# Altium footprint library PCB_MachMQ3.PcbLib: 17 footprints (part 2 of 2)
Each footprint in its own frame and in the unit in brackets; x right, y up, seen from the top. Pads: shape width x height; smd on the part's side, far side on the other; paste and mask are expansions set on the pad; w line width, h text height; cw(c..) or ccw(c..) is an arc to the next point about the centre after c.
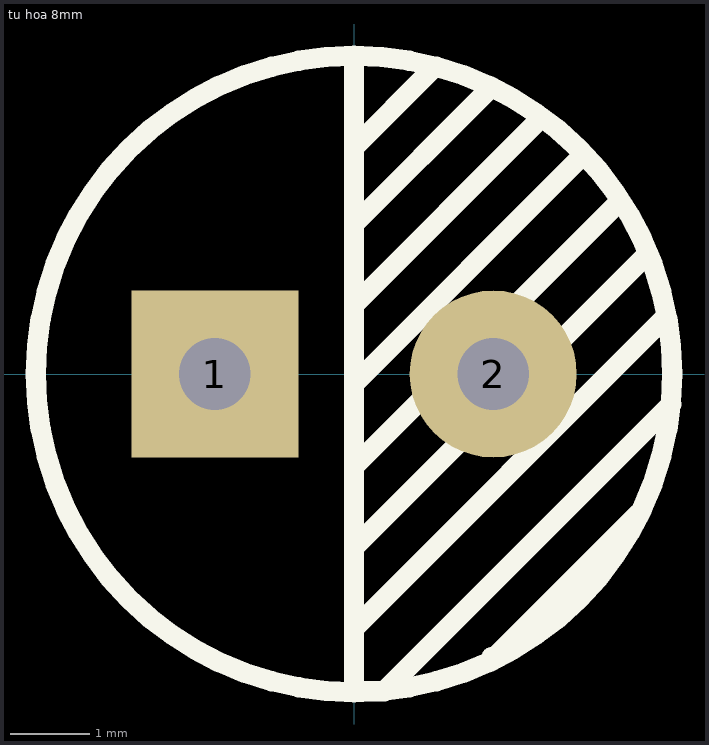
[diagram p1: the footprint, top view; thin cyan lines are the x and y axes]

## tu hoa 8mm [mm]
pads (2):
  rect 2.1x2.1 hole 0.9: 1(-1.75,0)
  round 2.1 hole 0.9: 2(1.75,0)
Top Overlay:
  circle w0.254: c0,0 r4
  lines w0.254: 0,-4 0,4 ; 0,-3.2 3.886,0.686 ; 0,-2.184 3.683,1.499 ; 0,-1.372 0,-1.168 3.327,2.159 ; 0,-0.584 0,-0.127 2.87,2.743 ; 0,0.559 0,0.864 2.311,3.175 ; 0,1.295 0,1.88 1.676,3.556 ; 0,2.642 0,2.845 0.965,3.81 ; 0.051,-3.988 0.381,-3.988 3.988,-0.381 ; 1.727,-3.556 1.778,-3.556 3.581,-1.753
3D body "Cap electro 8x10.step": height 13.81, standoff -3.49, extent -4.1,-4.075 4.1,4.125